# Altium schematic symbol library Battery_Holders.SchLib: 4 symbols
Pins are listed as number, name and electrical type; pins without a type are passive.

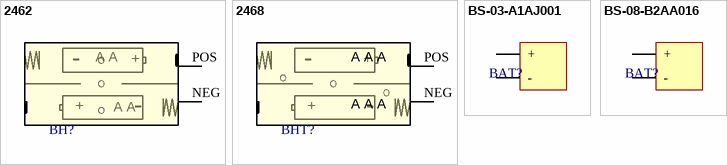
[diagram p0: symbols 2462 to BS-08-B2AA016]

## 2462
designator BH?  (value not drawn)
2 x AA through hole economic type; Manufacturer: Keystone; Manufacturer Part Number: 2462; Category: Battery holder; Datasheet: https://www.keyelco.com/userAssets/file/M65p28.pdf
footprint BATTERY_HOLDER_2XAA
pins: NEG, POS
text: A A; -; +

## 2468
designator BHT?
2 x AAA through hole economic type; Manufacturer: Keystone Electronics; Manufacturer Part Number: 2462; Category: Battery holder; Datasheet: https://www.keyelco.com/userAssets/file/M65p28.pdf
footprint BATTERY_HOLDER_2XAAA
pins: NEG, POS
text: A A A; -; +

## BS-03-A1AJ001
designator BAT?, comment Battery Holder CR2032  (value not drawn)
Battery base -25℃~+85℃ CR2032 Plugin Battery Connectors ROHS /; Manufacturer: Myoung; Manufacturer Part Number: BS-03-A1AJ001; Category: Battery holder; Datasheet: https://datasheet.lcsc.com/lcsc/2012181808_MYOUNG-BS-03-A1AJ001_C964747.pdf
footprint BS-03-A1AJ001
pins: NEG -, POS +

## BS-08-B2AA016
designator BAT?, comment Battery Holder CR2032  (value not drawn)
Battery base -25℃~+85℃ CR2032 SMD Battery Connectors ROHS /; Manufacturer: Myoung; Manufacturer part number: BS-2032-8KC; Category: Battery holder; Datasheet: https://datasheet.lcsc.com/lcsc/2012181809_MYOUNG-BS-08-B2AA016_C964792.pdf
footprint BS-08-B2AA016
pins: NEG -, POS +